# Altium schematic symbol library C-C0805C106K4PACTU.Schlib: 1 symbol
Pins are listed as number, name and electrical type; pins without a type are passive.

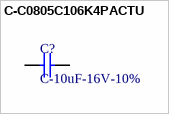
[diagram p0: symbol C-C0805C106K4PACTU]

## C-C0805C106K4PACTU
designator C?, comment C-10uF-16V-10%
Multilayer Ceramic Capacitors MLCC - SMD/SMT 16volts 10uF X5R 10%
pins: 1, 2